# EAGLE library part SS4-50-3.00-X-D (library SS4-50-3.00-X-D)
0.4MM SOCKET STRIP ASSEMBLY
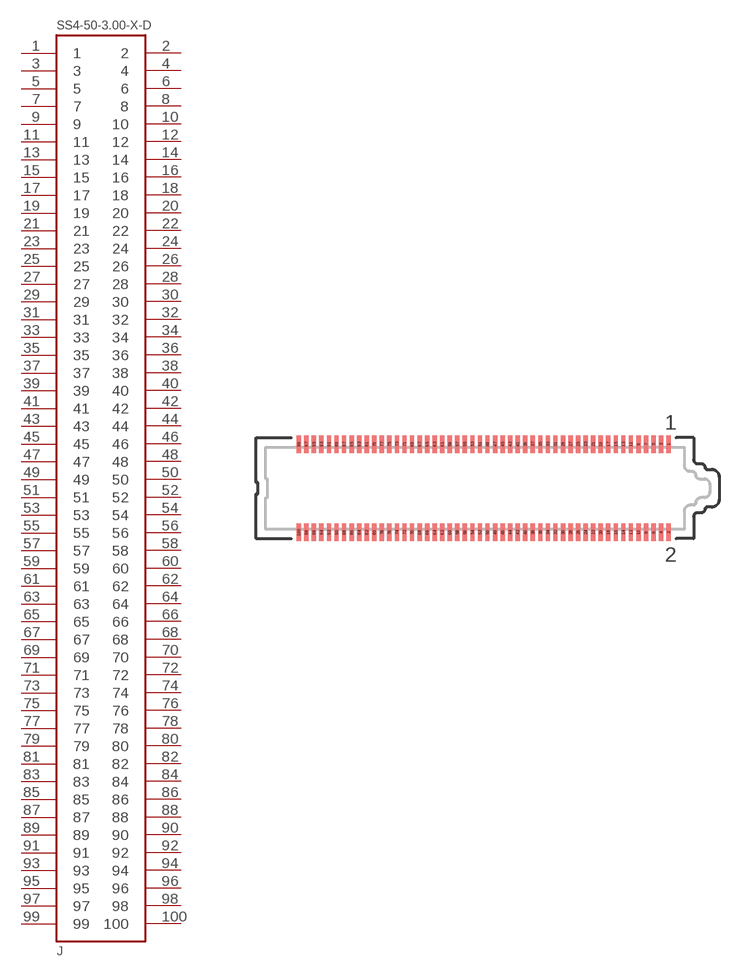
[diagram p0: symbol with the pads of SS4-50-3.00-X-D; footprint SS4-50-3.00-X-D]

Designator prefix J

## SS4-50-3.00-X-D  [SS4-50-3.00-X-D]
1  1
2  2
3  3
4  4
5  5
6  6
7  7
8  8
9  9
10  10
11  11
12  12
13  13
14  14
15  15
16  16
17  17
18  18
19  19
20  20
21  21
22  22
23  23
24  24
25  25
26  26
27  27
28  28
29  29
30  30
31  31
32  32
33  33
34  34
35  35
36  36
37  37
38  38
39  39
40  40
41  41
42  42
43  43
44  44
45  45
46  46
47  47
48  48
49  49
50  50
51  51
52  52
53  53
54  54
55  55
56  56
57  57
58  58
59  59
60  60
61  61
62  62
63  63
64  64
65  65
66  66
67  67
68  68
69  69
70  70
71  71
72  72
73  73
74  74
75  75
76  76
77  77
78  78
79  79
80  80
81  81
82  82
83  83
84  84
85  85
86  86
87  87
88  88
89  89
90  90
91  91
92  92
93  93
94  94
95  95
96  96
97  97
98  98
99  99
100  100

## Footprint SS4-50-3.00-X-D (pad centres in mm)
0.4MM SOCKET STRIP ASSEMBLY.
smd 0.23 x 0.93: 1 9.8,2.335; 2 9.8,-2.335; 3 9.4,2.335; 4 9.4,-2.335; 5 9,2.335; 6 9,-2.335; 7 8.6,2.335; 8 8.6,-2.335; 9 8.2,2.335; 10 8.2,-2.335; 11 7.8,2.335; 12 7.8,-2.335; 13 7.4,2.335; 14 7.4,-2.335; 15 7,2.335; 16 7,-2.335; 17 6.6,2.335; 18 6.6,-2.335; 19 6.2,2.335; 20 6.2,-2.335; 21 5.8,2.335; 22 5.8,-2.335; 23 5.4,2.335; 24 5.4,-2.335; 25 5,2.335; 26 5,-2.335; 27 4.6,2.335; 28 4.6,-2.335; 29 4.2,2.335; 30 4.2,-2.335; 31 3.8,2.335; 32 3.8,-2.335; 33 3.4,2.335; 34 3.4,-2.335; 35 3,2.335; 36 3,-2.335; 37 2.6,2.335; 38 2.6,-2.335; 39 2.2,2.335; 40 2.2,-2.335; 41 1.8,2.335; 42 1.8,-2.335; 43 1.4,2.335; 44 1.4,-2.335; 45 1,2.335; 46 1,-2.335; 47 0.6,2.335; 48 0.6,-2.335; 49 0.2,2.335; 50 0.2,-2.335; 51 -0.2,2.335; 52 -0.2,-2.335; 53 -0.6,2.335; 54 -0.6,-2.335; 55 -1,2.335; 56 -1,-2.335; 57 -1.4,2.335; 58 -1.4,-2.335; 59 -1.8,2.335; 60 -1.8,-2.335; 61 -2.2,2.335; 62 -2.2,-2.335; 63 -2.6,2.335; 64 -2.6,-2.335; 65 -3,2.335; 66 -3,-2.335; 67 -3.4,2.335; 68 -3.4,-2.335; 69 -3.8,2.335; 70 -3.8,-2.335; 71 -4.2,2.335; 72 -4.2,-2.335; 73 -4.6,2.335; 74 -4.6,-2.335; 75 -5,2.335; 76 -5,-2.335; 77 -5.4,2.335; 78 -5.4,-2.335; 79 -5.8,2.335; 80 -5.8,-2.335; 81 -6.2,2.335; 82 -6.2,-2.335; 83 -6.6,2.335; 84 -6.6,-2.335; 85 -7,2.335; 86 -7,-2.335; 87 -7.4,2.335; 88 -7.4,-2.335; 89 -7.8,2.335; 90 -7.8,-2.335; 91 -8.2,2.335; 92 -8.2,-2.335; 93 -8.6,2.335; 94 -8.6,-2.335; 95 -9,2.335; 96 -9,-2.335; 97 -9.4,2.335; 98 -9.4,-2.335; 99 -9.8,2.335; 100 -9.8,-2.335